# Altium footprint library goldpin.PcbLib: 4 footprints
Each footprint in its own frame and in the unit in brackets; x right, y up, seen from the top. Pads: shape width x height; smd on the part's side, far side on the other; paste and mask are expansions set on the pad; w line width, h text height; cw(c..) or ccw(c..) is an arc to the next point about the centre after c.
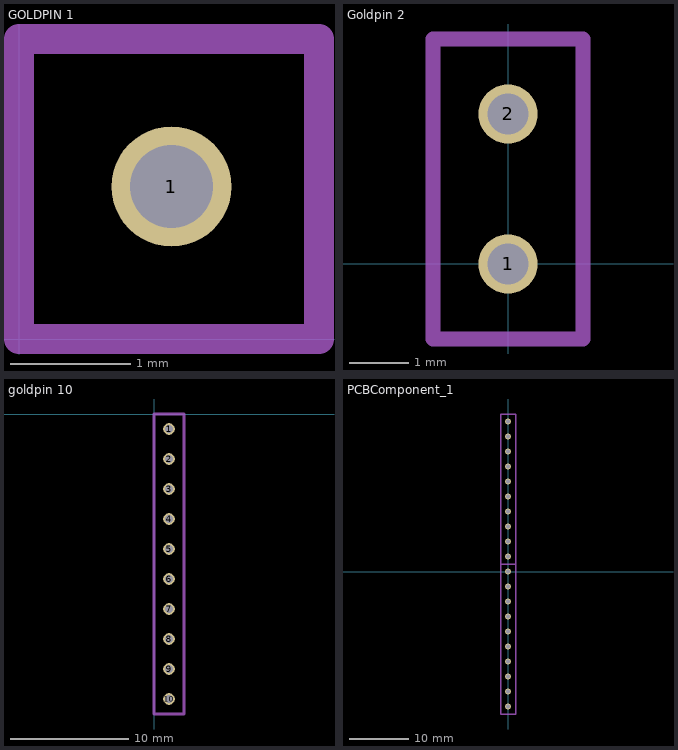
[diagram p0: the footprints below, top view; thin cyan lines are the x and y axes]

## GOLDPIN 1 [mm]
pads (1):
  round 1 / inner round 2.42 / far side round 1 hole 0.69 paste-2539.97 mask+0: 1(1.27,1.27)
Mechanical 1:
  lines w0.254: 0,0 2.5,0 2.5,2.5 0,2.5 0,0
3D body "double-ended round H3.0mm-1X01PIN.STEP": height 6.8, standoff -3.9, extent 0,0 2.54,2.54

## Goldpin 2 [mm]
pads (2):
  round 1 / inner round 2.42 / far side round 1 hole 0.69 paste-2539.97 mask+0: 1(0,0) 2(0,2.54)
Mechanical 1:
  lines w0.254: -1.27,-1.27 1.27,-1.27 1.27,3.81 -1.27,3.81 -1.27,-1.27
3D body "double-ended round H3.0mm-1X01PIN.STEP": height 6.8, standoff -3.9, extent -1.27,1.27 1.27,3.81
3D body "double-ended round H3.0mm-1X01PIN.STEP": height 6.8, standoff -3.9, extent -1.27,-1.27 1.27,1.27

## goldpin 10 [mm]
pads (10):
  round 1 / inner round 2.42 / far side round 1 hole 0.69 paste-2539.97 mask+0: 1(1.27,-1.27) 2(1.27,-3.81) 3(1.27,-6.35) 4(1.27,-8.89) 5(1.27,-11.43) 6(1.27,-13.97) 7(1.27,-16.51) 8(1.27,-19.05) 9(1.27,-21.59) 10(1.27,-24.13)
Mechanical 1:
  lines w0.254: 0,-25.4 2.54,-25.4 2.54,0 0,0 0,-25.4
3D body "double-ended round H3.0mm-1X01PIN.STEP": height 6.8, standoff -3.9, extent 0,-2.54 2.54,0
3D body "double-ended round H3.0mm-1X09PIN.STEP": height 6.8, standoff -3.9, extent 0,-25.4 2.54,-2.54

## PCBComponent_1 [mm]
pads (20):
  round 1 / inner round 2.42 / far side round 1 hole 0.69 paste-2539.97 mask+0: 1(0,25.4) 2(0,22.86) 3(0,20.32) 4(0,17.78) 5(0,15.24) 6(0,12.7) 7(0,10.16) 8(0,7.62) 9(0,5.08) 10(0,2.54) 11(0,0) 12(0,-2.54) 13(0,-5.08) 14(0,-7.62) 15(0,-10.16) 16(0,-12.7) 17(0,-15.24) 18(0,-17.78) 19(0,-20.32) 20(0,-22.86)
Mechanical 1:
  lines w0.254: -1.27,1.27 -1.27,26.67 1.27,26.67 1.27,1.27 ; -1.27,1.27 1.27,1.27 ; -1.27,1.27 1.27,1.27 ; -1.27,1.27 -1.27,-24.13 1.27,-24.13 1.27,1.27
3D body "double-ended round H3.0mm-1X01PIN.STEP": height 6.8, standoff -3.9, extent -1.27,24.13 1.27,26.67
3D body "double-ended round H3.0mm-1X09PIN.STEP": height 6.8, standoff -3.9, extent -1.27,1.27 1.27,24.13
3D body "double-ended round H3.0mm-1X01PIN.STEP": height 6.8, standoff -3.9, extent -1.27,-1.27 1.27,1.27
3D body "double-ended round H3.0mm-1X09PIN.STEP": height 6.8, standoff -3.9, extent -1.27,-24.13 1.27,-1.27